# Altium footprint library AutonomousVehicle_Lib.PcbLib: 12 footprints
Each footprint in its own frame and in the unit in brackets; x right, y up, seen from the top. Pads: shape width x height; smd on the part's side, far side on the other; paste and mask are expansions set on the pad; w line width, h text height; cw(c..) or ccw(c..) is an arc to the next point about the centre after c.
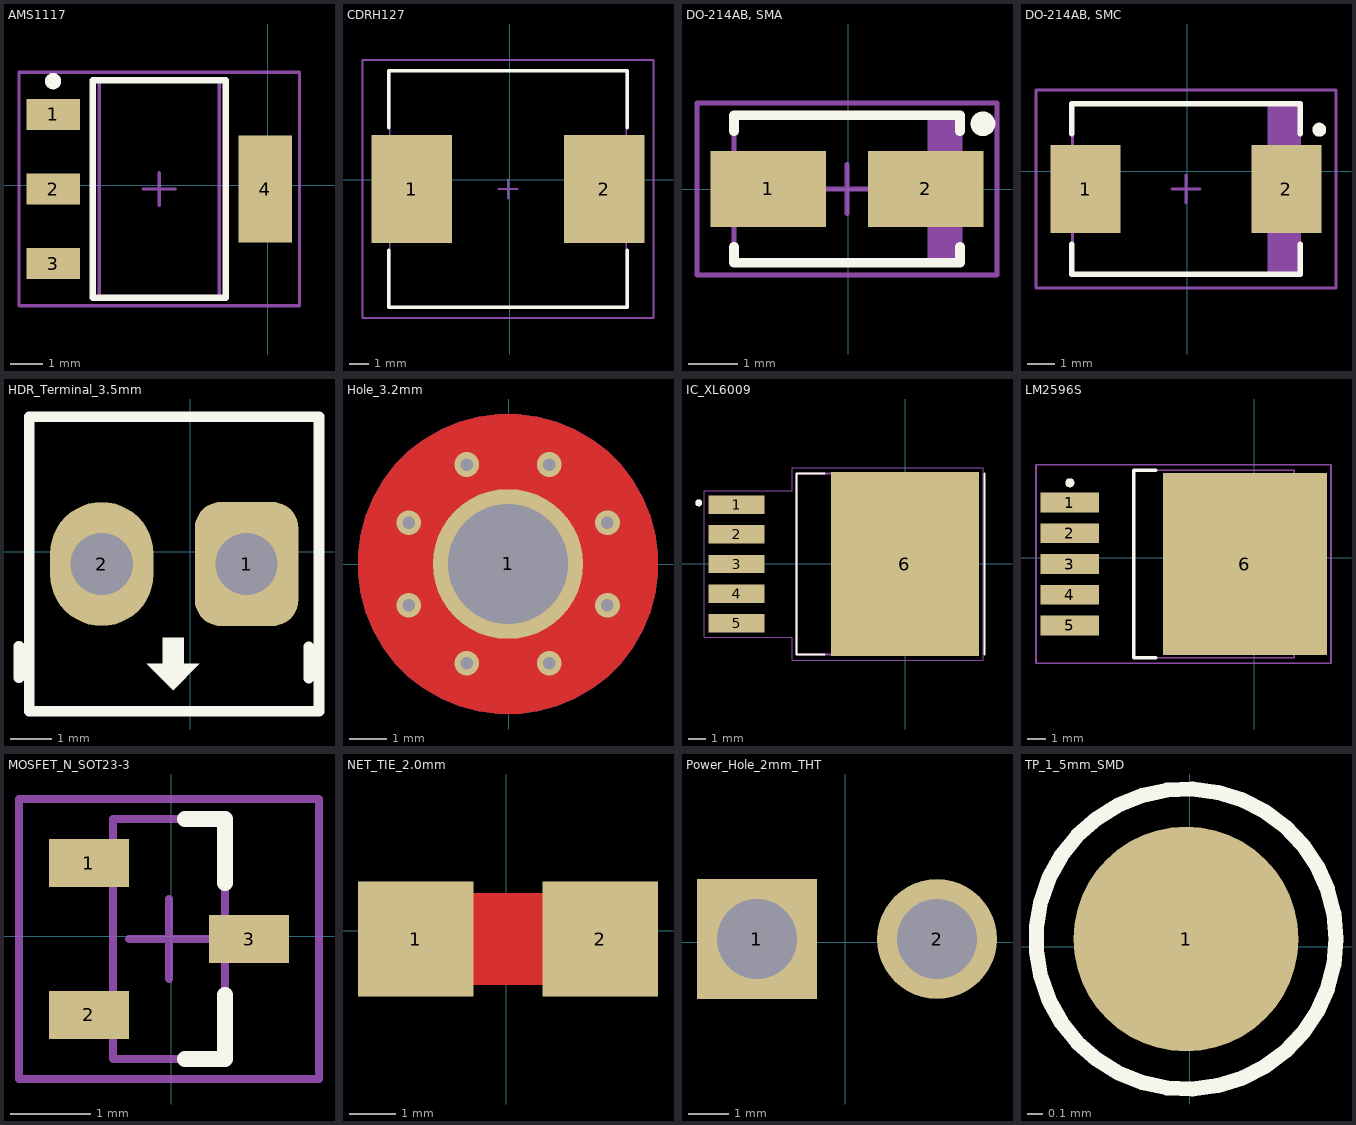
[diagram p0: the footprints below, top view; thin cyan lines are the x and y axes]

## AMS1117 [mm]
pads (4):
  rect 1.65x0.95 smd: 1(-6.615,2.189) 2(-6.615,-0.111) 3(-6.615,-2.411)
  rect 1.65x3.3 smd: 4(-0.065,-0.111)
Top Overlay:
  circle w0.25: c-6.615,3.214 r0.125
  lines w0.2: -5.39,-3.461 -1.29,-3.461 -1.29,3.239 -5.39,3.239 -5.39,-3.461
Mechanical 13:
  lines w0.1: -5.19,-3.461 -1.49,-3.461 -1.49,3.239 -5.19,3.239 -5.19,-3.461
Mechanical 15:
  lines w0.1: -3.84,-0.111 -2.84,-0.111 ; -3.34,-0.611 -3.34,0.389 ; -7.665,-3.711 0.985,-3.711 0.985,3.489 -7.665,3.489 -7.665,-3.711
3D body "User Library-SOT-223-1.step": height 1.64, standoff -0.01, extent -6.84,-3.361 0.16,3.139

## CDRH127 [mm]
pads (2):
  rect 4.2x5.6 smd: 1(-5.103,-0.487) 2(4.897,-0.487)
Top Overlay:
  lines w0.2: -6.303,-3.687 -6.303,-6.637 6.097,-6.637 6.097,-3.687 ; -6.303,2.713 -6.303,5.663 6.097,5.663 6.097,2.713
Mechanical 13:
  lines w0.1: -6.253,-6.637 -6.253,5.663 6.047,5.663 6.047,-6.637 -6.253,-6.637
Mechanical 15:
  lines w0.1: -0.603,-0.487 0.397,-0.487 ; -0.103,-0.987 -0.103,0.013 ; -7.678,-7.187 -7.678,6.213 7.472,6.213 7.472,-7.187 -7.678,-7.187
3D body "User Library-DRQ127_12_5x12_5.step": height 8.01, standoff 0.01, extent -6.353,-6.737 6.147,5.763

## DO-214AB, SMA [mm]
pads (2):
  rect 2.35x1.55 smd: 1(-1.622,0.001) 2(1.578,0.001)
Top Overlay:
  circle w0.25: c2.743,1.326 r0.125
  lines w0.2: -2.322,-1.174 -2.322,-1.499 2.278,-1.499 2.278,-1.174 ; -2.322,1.176 -2.322,1.501 2.278,1.501 2.278,1.176
Mechanical 13:
  rectangle: 1.615,-1.449 2.234,1.451
  lines w0.1: -2.322,-1.449 -2.322,1.451 2.278,1.451 2.278,-1.449 -2.322,-1.449
Mechanical 15:
  lines w0.1: -0.522,0.001 0.478,0.001 ; -0.022,-0.499 -0.022,0.501 ; -3.072,-1.749 -3.072,1.751 3.028,1.751 3.028,-1.749 -3.072,-1.749
3D body "User Library-DO-214AC SMA.step": height 2.4, standoff 0, extent -2.622,-1.294 2.578,1.306

## DO-214AB, SMC [mm]
pads (2):
  rect 2.5x3.15 smd: 1(-3.646,-0.641) 2(3.554,-0.641)
Top Overlay:
  circle w0.25: c4.729,1.484 r0.125
  lines w0.2: -4.146,-2.616 -4.146,-3.691 4.054,-3.691 4.054,-2.616 ; -4.146,1.334 -4.146,2.409 4.054,2.409 4.054,1.334
Mechanical 13:
  rectangle: 2.874,-3.691 3.967,2.409
  lines w0.1: -4.111,-3.691 -4.111,2.409 4.019,2.409 4.019,-3.691 -4.111,-3.691
Mechanical 15:
  lines w0.1: -0.546,-0.641 0.454,-0.641 ; -0.046,-1.141 -0.046,-0.141 ; -5.421,-4.191 -5.421,2.909 5.329,2.909 5.329,-4.191 -5.421,-4.191
3D body "User Library-DO-214AB SMC.step": height 2.27, standoff -0.03, extent -4.021,-3.62 3.929,2.28

## HDR_Terminal_3.5mm [mm]
pads (2):
  rrect50% 2.5x3 hole 1.5: 1(1.363,-0.296)
  oval 2.5x3 hole 1.5: 2(-2.137,-0.296)
Top Overlay:
  region: -0.415,-3.344 0.22,-2.709 -0.161,-2.709 -0.161,-2.074 -0.669,-2.074 -0.669,-2.709 -1.05,-2.709
  lines w0.254: -4.137,-3.046 -4.137,-2.284 ; 2.863,-3.058 2.863,-2.296 ; -3.887,-3.852 -3.887,3.26 3.113,3.26 3.113,-3.852 -3.887,-3.852
3D body "User Library-Terminal Block 2 way 3.5mm.step": height 8.51, standoff -3.5, extent -3.943,-3.941 3.169,3.349

## Hole_3.2mm [mm]
pads (1):
  round 4 / inner round 7 / far side round 7 hole 3.2: 1(-0.014,0.006)
via 1.086,-2.644 diameter 0.66 hole 0.33
via -2.664,-1.094 diameter 0.66 hole 0.33
via -1.114,2.656 diameter 0.66 hole 0.33
via 2.636,1.106 diameter 0.66 hole 0.33
via -2.664,1.106 diameter 0.66 hole 0.33
via 1.086,2.656 diameter 0.66 hole 0.33
via 2.636,-1.094 diameter 0.66 hole 0.33
via -1.114,-2.644 diameter 0.66 hole 0.33
Top Layer:
  region: -2.264,0.106 -2.239,0.331 -2.189,0.581 -2.114,0.806 -2.039,0.981 -1.964,1.131 -1.889,1.256 -1.789,1.381 -1.689,1.506 -2.614,2.431 -2.789,2.231 -2.939,2.031 -3.064,1.831 -3.189,1.606 -3.289,1.381 -3.364,1.181 -3.439,0.956 -3.489,0.731 -3.514,0.606 -3.539,0.456 -3.564,0.106
  region: -2.264,-0.094 -2.239,-0.319 -2.189,-0.569 -2.114,-0.794 -2.039,-0.969 -1.964,-1.119 -1.889,-1.244 -1.789,-1.369 -1.689,-1.494 -2.614,-2.419 -2.789,-2.219 -2.939,-2.019 -3.064,-1.819 -3.189,-1.594 -3.289,-1.369 -3.364,-1.169 -3.439,-0.944 -3.489,-0.719 -3.514,-0.594 -3.539,-0.444 -3.564,-0.094
  region: -0.114,2.256 -0.339,2.231 -0.589,2.181 -0.814,2.106 -0.989,2.031 -1.139,1.956 -1.264,1.881 -1.389,1.781 -1.514,1.681 -2.439,2.606 -2.239,2.781 -2.039,2.931 -1.839,3.056 -1.614,3.181 -1.389,3.281 -1.189,3.356 -0.964,3.431 -0.739,3.481 -0.614,3.506 -0.464,3.531 -0.114,3.556
  region: 0.086,2.256 0.311,2.231 0.561,2.181 0.786,2.106 0.961,2.031 1.111,1.956 1.236,1.881 1.361,1.781 1.486,1.681 2.411,2.606 2.211,2.781 2.011,2.931 1.811,3.056 1.586,3.181 1.361,3.281 1.161,3.356 0.936,3.431 0.711,3.481 0.586,3.506 0.436,3.531 0.086,3.556
  region: 2.236,-0.094 2.211,-0.319 2.161,-0.569 2.086,-0.794 2.011,-0.969 1.936,-1.119 1.861,-1.244 1.761,-1.369 1.661,-1.494 2.586,-2.419 2.761,-2.219 2.911,-2.019 3.036,-1.819 3.161,-1.594 3.261,-1.369 3.336,-1.169 3.411,-0.944 3.461,-0.719 3.486,-0.594 3.511,-0.444 3.536,-0.094
  region: 2.236,0.106 2.211,0.331 2.161,0.581 2.086,0.806 2.011,0.981 1.936,1.131 1.861,1.256 1.761,1.381 1.661,1.506 2.586,2.431 2.761,2.231 2.911,2.031 3.036,1.831 3.161,1.606 3.261,1.381 3.336,1.181 3.411,0.956 3.461,0.731 3.486,0.606 3.511,0.456 3.536,0.106
  region: 0.086,-2.244 0.311,-2.219 0.561,-2.169 0.786,-2.094 0.961,-2.019 1.111,-1.944 1.236,-1.869 1.361,-1.769 1.486,-1.669 2.411,-2.594 2.211,-2.769 2.011,-2.919 1.811,-3.044 1.586,-3.169 1.361,-3.269 1.161,-3.344 0.936,-3.419 0.711,-3.469 0.586,-3.494 0.436,-3.519 0.086,-3.544
  region: -0.114,-2.244 -0.339,-2.219 -0.589,-2.169 -0.814,-2.094 -0.989,-2.019 -1.139,-1.944 -1.264,-1.869 -1.389,-1.769 -1.514,-1.669 -2.439,-2.594 -2.239,-2.769 -2.039,-2.919 -1.839,-3.044 -1.614,-3.169 -1.389,-3.269 -1.189,-3.344 -0.964,-3.419 -0.739,-3.469 -0.614,-3.494 -0.464,-3.519 -0.114,-3.544
  pour cut-out: -4.014,0.006 -4.014,0.268 -3.946,0.788 -3.81,1.295 -3.609,1.779 -3.347,2.233 -3.028,2.649 -2.657,3.02 -2.241,3.339 -1.787,3.601 -1.303,3.802 -0.796,3.937 -0.276,4.006 -0.014,4.006 0.248,4.006 0.768,3.938 1.274,3.802 1.759,3.601 2.213,3.339 2.629,3.02 3,2.649 3.319,2.233 3.581,1.779 3.782,1.294 3.918,0.788 3.986,0.268 3.986,0.006 3.986,-0.256 3.918,-0.776 3.782,-1.283 3.581,-1.767 3.319,-2.221 3,-2.637 2.629,-3.008 2.213,-3.327 1.759,-3.589 1.275,-3.79 0.768,-3.926 0.248,-3.994 -0.014,-3.994 -0.276,-3.994 -0.796,-3.926 -1.302,-3.79 -1.787,-3.589 -2.241,-3.327 -2.657,-3.008 -3.028,-2.637 -3.347,-2.221 -3.609,-1.767 -3.81,-1.283 -3.946,-0.776 -4.014,-0.256
Bottom Layer:
  pour cut-out: -4.014,0.006 -4.014,0.268 -3.946,0.788 -3.81,1.295 -3.609,1.779 -3.347,2.233 -3.028,2.649 -2.657,3.02 -2.241,3.339 -1.787,3.601 -1.303,3.802 -0.796,3.937 -0.276,4.006 -0.014,4.006 0.248,4.006 0.768,3.938 1.274,3.802 1.759,3.601 2.213,3.339 2.629,3.02 3,2.649 3.319,2.233 3.581,1.779 3.782,1.294 3.918,0.788 3.986,0.268 3.986,0.006 3.986,-0.256 3.918,-0.776 3.782,-1.283 3.581,-1.767 3.319,-2.221 3,-2.637 2.629,-3.008 2.213,-3.327 1.759,-3.589 1.275,-3.79 0.768,-3.926 0.248,-3.994 -0.014,-3.994 -0.276,-3.994 -0.796,-3.926 -1.302,-3.79 -1.787,-3.589 -2.241,-3.327 -2.657,-3.008 -3.028,-2.637 -3.347,-2.221 -3.609,-1.767 -3.81,-1.283 -3.946,-0.776 -4.014,-0.256
Top Solder:
  region: 3.586,-0.011 3.586,-0.246 3.525,-0.711 3.403,-1.165 3.223,-1.599 2.989,-2.006 2.703,-2.378 2.371,-2.711 1.998,-2.997 1.591,-3.231 1.157,-3.411 0.703,-3.533 0.238,-3.594 0.003,-3.594 -0.234,-3.594 -0.704,-3.532 -1.162,-3.41 -1.6,-3.228 -2.011,-2.991 -2.387,-2.703 -2.722,-2.368 -3.011,-1.991 -3.248,-1.581 -3.429,-1.143 -3.552,-0.685 -3.614,-0.215 -3.614,0.022 -3.614,0.258 -3.552,0.725 -3.43,1.18 -3.249,1.615 -3.013,2.023 -2.725,2.396 -2.391,2.728 -2.017,3.014 -1.608,3.249 -1.172,3.427 -0.716,3.548 -0.249,3.607 -0.013,3.606 0.223,3.605 0.692,3.541 1.148,3.417 1.584,3.234 1.992,2.997 2.366,2.708 2.7,2.373 2.987,1.997 3.222,1.588 3.403,1.151 3.525,0.694 3.586,0.225

## IC_XL6009 [mm]
pads (6):
  rect 3.21x1.05 smd: 1(-9.658,3.394) 2(-9.658,1.694) 3(-9.658,-0.006) 4(-9.658,-1.706) 5(-9.658,-3.406)
  rect 8.46x10.53 smd paste-6: 6(-0.028,-0.006)
Top Overlay:
  circle w0.2: c-11.828,3.494 r0.1
  lines w0.127: -4.628,-5.186 -6.233,-5.186 -6.233,5.174 -4.628,5.174 ; 4.522,-5.186 4.522,5.174
Top Paste:
  region: 1.662,-0.716 0.402,-0.716 0.402,0.704 1.662,0.704
  region: 3.782,-0.716 2.522,-0.716 2.522,0.704 3.782,0.704
  region: -0.458,-0.716 -1.718,-0.716 -1.718,0.704 -0.458,0.704
  region: -2.578,-0.716 -3.838,-0.716 -3.838,0.704 -2.578,0.704
  region: 1.662,1.394 0.402,1.394 0.402,2.814 1.662,2.814
  region: 1.662,3.504 0.402,3.504 0.402,4.924 1.662,4.924
  region: 1.662,-2.826 0.402,-2.826 0.402,-1.406 1.662,-1.406
  region: 1.662,-4.936 0.402,-4.936 0.402,-3.516 1.662,-3.516
  region: 3.782,1.394 2.522,1.394 2.522,2.814 3.782,2.814
  region: 3.782,3.504 2.522,3.504 2.522,4.924 3.782,4.924
  region: 3.782,-2.826 2.522,-2.826 2.522,-1.406 3.782,-1.406
  region: 3.782,-4.936 2.522,-4.936 2.522,-3.516 3.782,-3.516
  region: -0.458,-2.826 -1.718,-2.826 -1.718,-1.406 -0.458,-1.406
  region: -0.458,-4.936 -1.718,-4.936 -1.718,-3.516 -0.458,-3.516
  region: -0.458,1.394 -1.718,1.394 -1.718,2.814 -0.458,2.814
  region: -2.578,1.394 -3.838,1.394 -3.838,2.814 -2.578,2.814
  region: -2.578,3.504 -3.838,3.504 -3.838,4.924 -2.578,4.924
  region: -0.458,3.504 -1.718,3.504 -1.718,4.924 -0.458,4.924
  region: -2.578,-2.826 -3.838,-2.826 -3.838,-1.406 -2.578,-1.406
  region: -2.578,-4.936 -3.838,-4.936 -3.838,-3.516 -2.578,-3.516
Mechanical 13:
  circle w0.2: c-11.828,3.494 r0.1
  lines w0.127: -6.233,-5.186 -6.233,5.174 2.667,5.174 2.667,-5.186 -6.233,-5.186
Mechanical 15:
  lines w0.05: -11.518,-4.186 -11.518,4.174 -6.488,4.174 -6.488,5.514 4.452,5.514 4.452,-5.526 -6.488,-5.526 -6.488,-4.186 -11.518,-4.186
3D body "step_temp.STEP": height 4.65, standoff 0, extent -10.703,-5.086 3.647,5.074

## LM2596S [mm]
pads (6):
  rect 3.25x1.1 smd: 1(-10.206,3.047) 2(-10.206,1.347) 3(-10.206,-0.353) 4(-10.206,-2.053) 5(-10.206,-3.753)
  rect 9.1x10.1 smd: 6(-0.506,-0.353)
Top Overlay:
  circle w0.25: c-10.206,4.147 r0.125
  lines w0.2: -5.456,-5.553 -6.656,-5.553 -6.656,4.847 -5.456,4.847
Mechanical 13:
  lines w0.1: -6.656,-5.553 2.234,-5.553 2.234,4.847 -6.656,4.847 -6.656,-5.553
Mechanical 15:
  lines w0.1: -4.406,-0.353 -3.406,-0.353 ; -3.906,-0.853 -3.906,0.147 ; -12.081,-5.853 4.269,-5.853 4.269,5.147 -12.081,5.147 -12.081,-5.853
3D body "SW3dPS-TO263-5.STEP": height 4.83, standoff 0.03, extent -11.462,-5.331 4.208,4.669

## MOSFET_N_SOT23-3 [mm]
pads (3):
  rect 1x0.6 smd: 1(-1.03,0.914) 2(-1.03,-0.986) 3(0.97,-0.036)
Top Overlay:
  lines w0.2: 0.17,-1.536 0.67,-1.536 0.67,-0.736 ; 0.17,1.464 0.67,1.464 0.67,0.664
Mechanical 13:
  lines w0.1: -0.73,-1.536 0.67,-1.536 0.67,1.464 -0.73,1.464 -0.73,-1.536
Mechanical 15:
  lines w0.1: -0.53,-0.036 0.47,-0.036 ; -0.03,-0.536 -0.03,0.464 ; -1.905,-1.786 1.845,-1.786 1.845,1.714 -1.905,1.714 -1.905,-1.786
3D body "User Library-SOT-23-1.STEP": height 0.95, standoff -0.04, extent -1.308,-1.496 1.24,1.424

## NET_TIE_2.0mm [mm]
pads (2):
  rect 2.5x2.5 smd mask-10: 1(-1.959,-0.178) 2(2.041,-0.178)
Top Layer:
  lines w2: -1.959,-0.178 2.041,-0.178

## Power_Hole_2mm_THT [mm]
pads (2):
  rect 3x3 hole 2: 1(-2.21,0.076)
  round 3 hole 2: 2(2.29,0.076)

## TP_1_5mm_SMD [mm]
pads (1):
  round 1.5 smd: 1(-0.025,0.051)
Top Overlay:
  circle w0.1: c-0.025,0.051 r1